# EAGLE library part TTGO (library TTGO32)
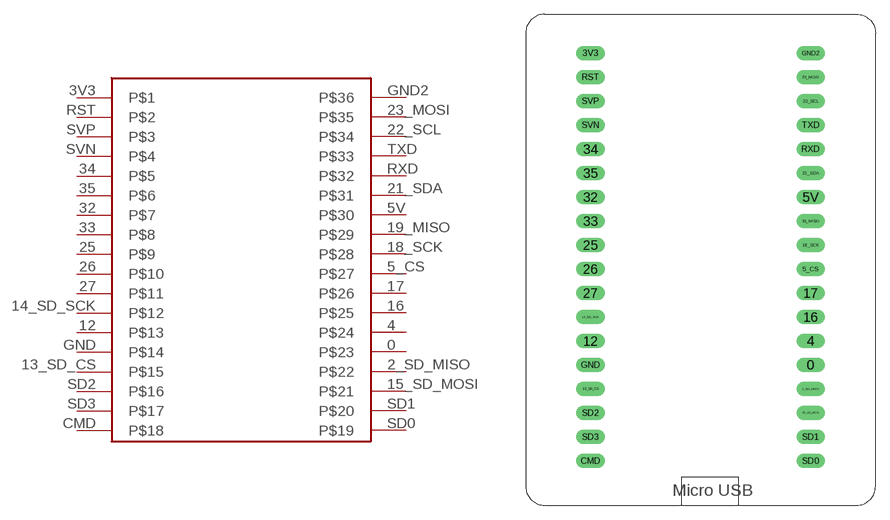
[diagram p0: symbol with the pads of TTGO; footprint TTGO]

Designator prefix -

## TTGO  [TTGO]
0  P$23
2_SD_MISO  P$22
3V3  P$1
4  P$24
5_CS  P$27
5V  P$30
12  P$13
13_SD_CS  P$15
14_SD_SCK  P$12
15_SD_MOSI  P$21
16  P$25
17  P$26
18_SCK  P$28
19_MISO  P$29
21_SDA  P$31
22_SCL  P$34
23_MOSI  P$35
25  P$9
26  P$10
27  P$11
32  P$7
33  P$8
34  P$5
35  P$6
CMD  P$18
GND  P$14
GND2  P$36
RST  P$2
RXD  P$32
SD0  P$19
SD1  P$20
SD2  P$16
SD3  P$17
SVN  P$4
SVP  P$3
TXD  P$33

## Footprint TTGO (pad centres in mm)
drill 1 pad 1.5 long: 0 11.64,-11.15; 2_SD_MISO 11.64,-13.69; 3V3 -11.64,21.87; 4 11.64,-8.61; 5_CS 11.64,-0.99; 5V 11.64,6.63; 12 -11.64,-8.61; 13_SD_CS -11.64,-13.69; 14_SD_SCK -11.64,-6.07; 15_SD_MOSI 11.64,-16.23; 16 11.64,-6.07; 17 11.64,-3.53; 18_SCK 11.64,1.55; 19_MISO 11.64,4.09; 21_SDA 11.64,9.17; 22_SCL 11.64,16.79; 23_MOSI 11.64,19.33; 25 -11.64,1.55; 26 -11.64,-0.99; 27 -11.64,-3.53; 32 -11.64,6.63; 33 -11.64,4.09; 34 -11.64,11.71; 35 -11.64,9.17; CMD -11.64,-21.31; GND -11.64,-11.15; GND2 11.64,21.87; RST -11.64,19.33; RXD 11.64,11.71; SD0 11.64,-21.31; SD1 11.64,-18.77; SD2 -11.64,-16.23; SD3 -11.64,-18.77; SVN -11.64,14.25; SVP -11.64,16.79; TXD 11.64,14.25